# Altium footprint library Diodo-MiniMELF.PcbLib: 1 footprints
Each footprint in its own frame and in the unit in brackets; x right, y up, seen from the top. Pads: shape width x height; smd on the part's side, far side on the other; paste and mask are expansions set on the pad; w line width, h text height; cw(c..) or ccw(c..) is an arc to the next point about the centre after c.
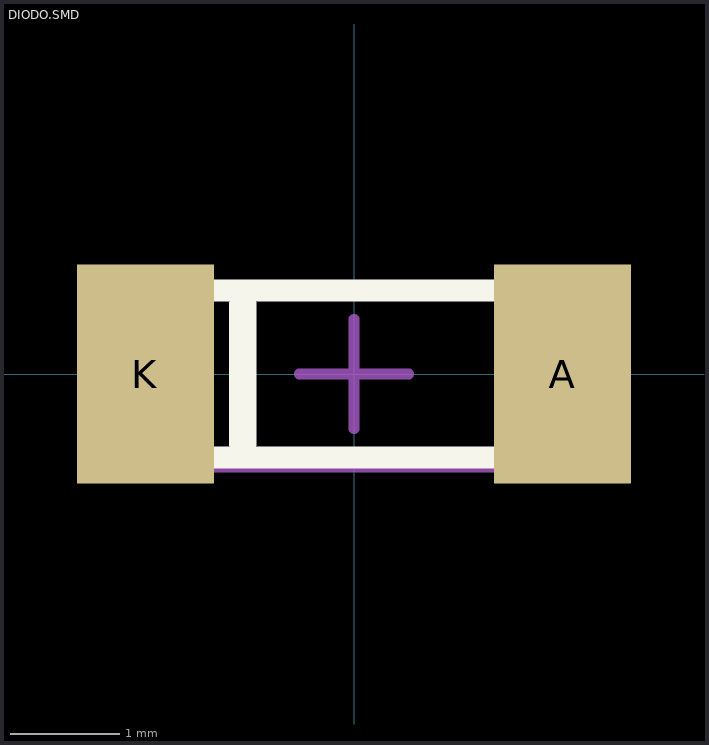
[diagram p0: the footprint, top view; thin cyan lines are the x and y axes]

## DIODO.SMD [mm] "1/2W SMD-Mini-MELF.SOD-80"
pads (2):
  rect 1.25x2 smd: A(1.905,0) K(-1.905,0)
Top Overlay:
  lines w0.2: -1.905,-0.762 1.905,-0.762 1.905,0.762 -1.905,0.762 -1.905,-0.762
  lines w0.254: -1.016,-0.635 -1.016,0.635
Mechanical 1:
  lines w0.1: -0.5,0 0.5,0 ; 0,-0.5 0,0.5 ; -1.85,-0.85 -1.85,0.762 1.85,0.762 1.85,-0.85 -1.85,-0.85
3D body "Diodo-MiniMELF.stp": height 1.6, standoff 0, extent -1.875,-0.786 1.825,0.786